# Altium integrated library Linear Technology Power Management Hot Swap Controllers.IntLib: 992 symbols (part 21 of 93)
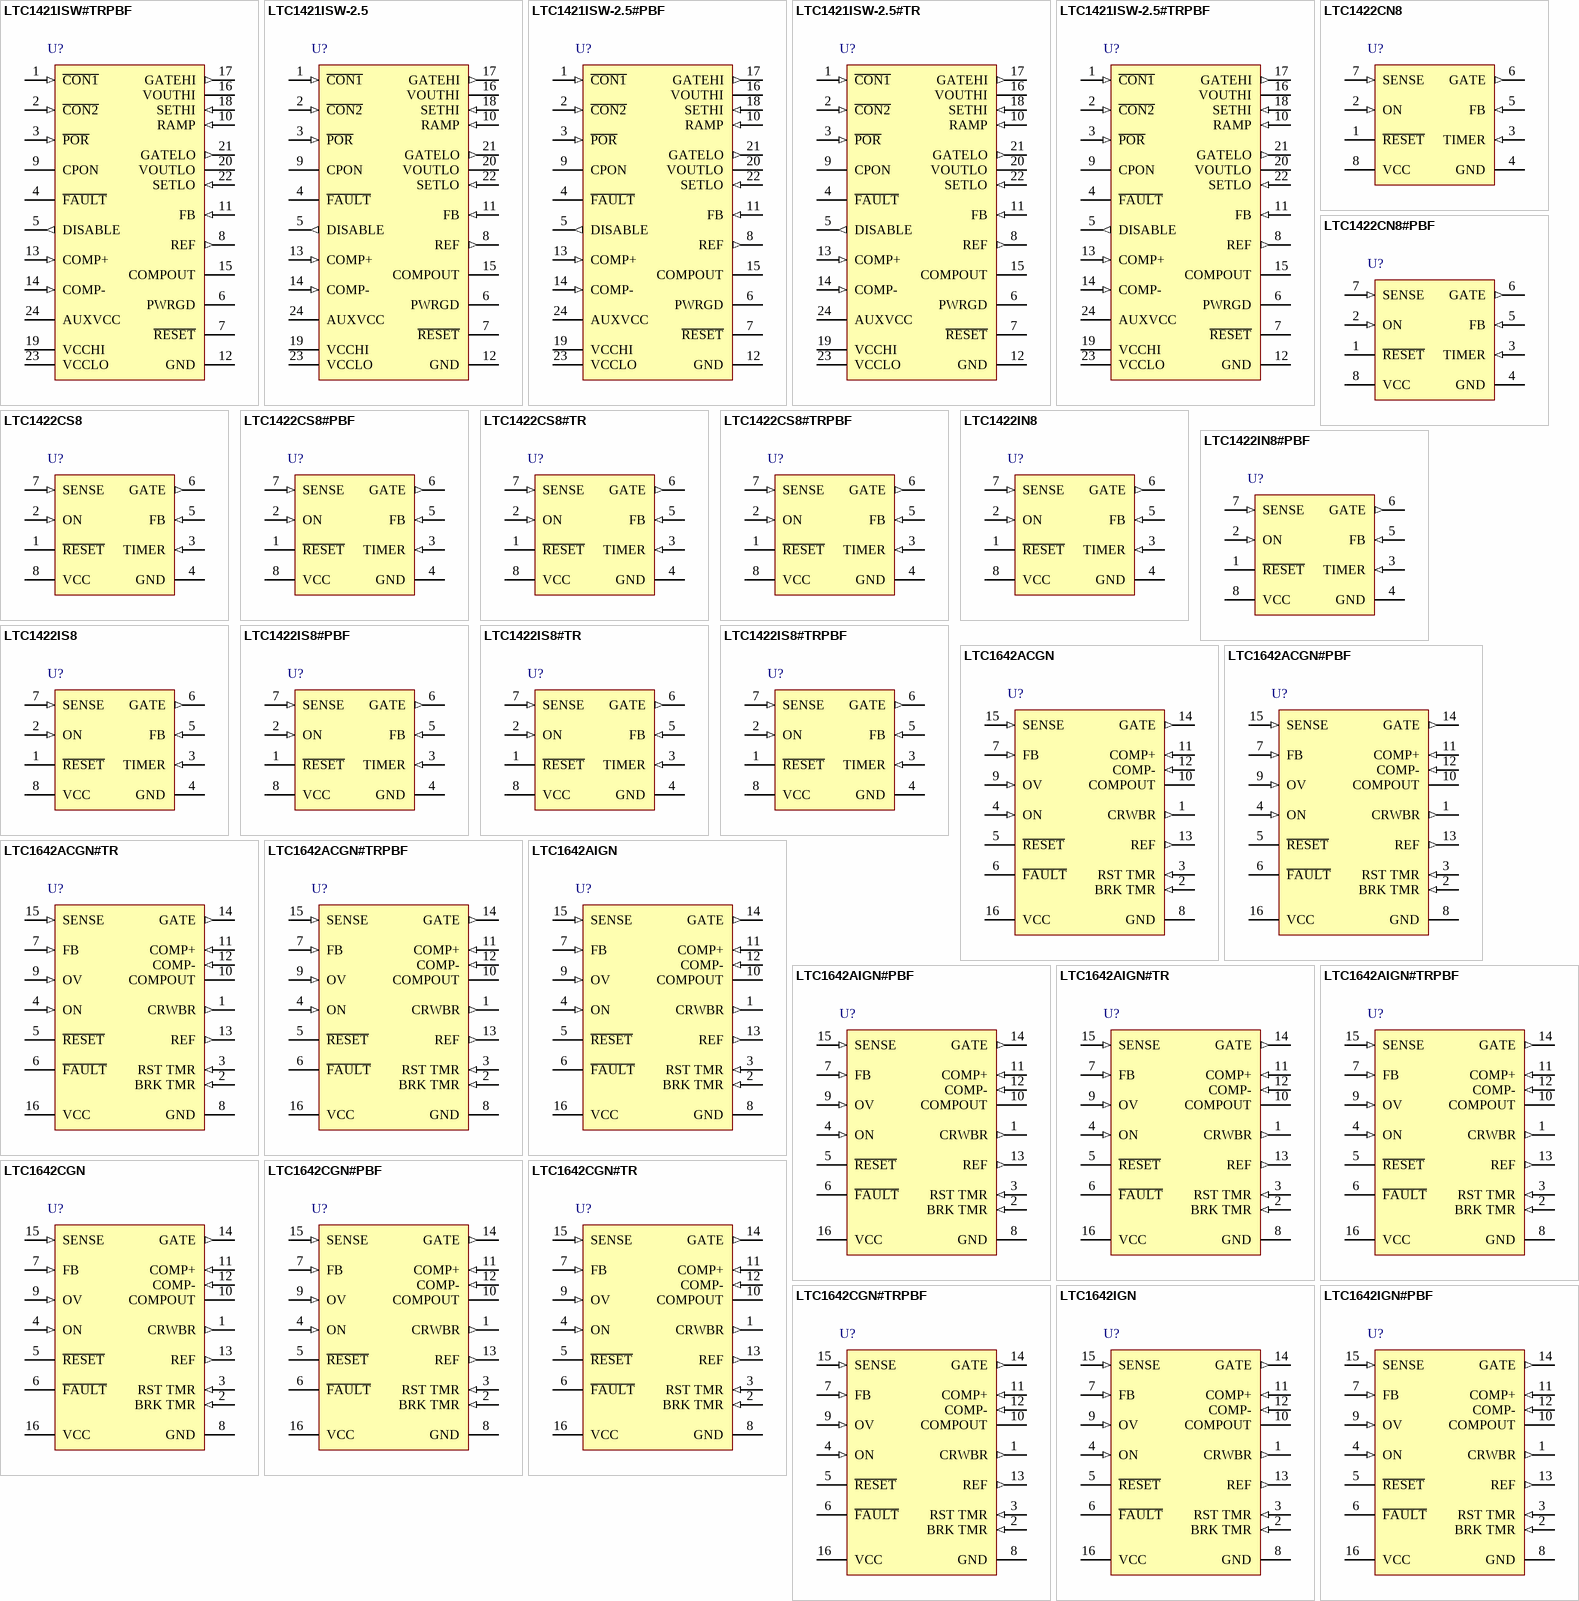
[diagram p57: symbols LTC1421ISW#TRPBF to LTC1642IGN#PBF]

## LTC1642ACGN
designator U?
Hot Swap Controller, 2.97 to 16.5 V Vin, 16-pin SOP (GN-16), 0 to 70 degC; Manufacturer: Linear Technology; PartNumber: LTC1642ACGN; Active Limiting: yes; Circuit Breaker Accuracy(%): 20; Circuit Breaker Threshold: 52.5 mV; Circuit Breakers(#): 1; Extended Temp: C, I; Fast Comparator: no; In-Rush Current: Ramp; PackageVersion: Rev. B, 03/2012; PackageReference: GN-16; PackageDescription: 16-Pin Plastic SSOP, Body 4.9 x 3.9 mm, Pitch 0.635 mm; Fault: yes; Foldback: yes; Power Good: no; Reset: yes; RoHS: FALSE; Vin Range: 2.97 to 16.5 V; Mounting Technology: Surface Mount; ComponentLink1Description: Manufacturer URL; ComponentLink1URL: http://www.linear.com/; ComponentLink2Description: Datasheet; ComponentLink2URL: http://cds.linear.com/docs/en/datasheet/1642af.pdf; ComponentLink3Description: Package Specification; ComponentLink3URL: http://cds.linear.com/docs/en/packaging/05081641_B_GN16.pdf
footprint LT-GN-16_N (SOP, 16-Leads, Body 5x4mm, Pitch 0.635mm, IPC Medium Density)
footprint LT-GN-16_L (SOP, 16-Leads, Body 5x4mm, Pitch 0.635mm, IPC High Density)
footprint LT-GN-16_M (SOP, 16-Leads, Body 5x4mm, Pitch 0.635mm, IPC Low Density)
pins: 1 CRWBR (out) "Overvoltage Crowbar Circuit Timer and Trigger. This pin controls an external overvoltage crowbar circuit. A capacitor from the pin to ground sets a 9ms/uF delay after an overvoltage occurs until an external SCR is triggered. (See Datasheet)", 2 BRK TMR (in) "Circuit Breaker Timer. Connect a capacitor from BRK TMR to ground to set a 60ms/uF delay from the time the sense resistor current reaches its limit until the FET is shut off. F\A\U\L\T\ output is then asserted and the FET (See Datasheet)", 3 RST TMR (in) "Analog System/Reset Timer. A capacitor from this pin to ground sets a 0.6s/uF delay from the ON pin going high to the start of the GATE pin’s ramp. It also sets the delay from output voltage good, as sensed by the FB pin(See Datasheet)", 4 ON (in) "ON Control Input. When ON is low the GATE pin is grounded and F\A\U\L\T\ goes high. The GATE pin voltage starts ramping up one RST TMR timing cycle after ON goes high. Pulsing the ON pin low for at least 2us resets the chip (See Datasheet)", 5 ~{RESET} (oc) "Open Drain Reset Output. R\E\S\E\T\ is pulled low if the voltage at the FB pin is below its trip point. R\E\S\E\T\ goes high one RESET timing cycle after the FB voltage exceeds its trip point plus 3mV of hysteresis. (See Datasheet)", 6 ~{FAULT} (oc) "Open Drain Fault Output. F\A\U\L\T\ is pulled low when the part turns off following a sustained overvoltage or current limit. It goes high 2us after the ON pin goes low. F\A\U\L\T\ has a weak pull-up to one diode drop below (See Datasheet)", 7 FB (in) "Output Voltage Monitor and Foldback Input. The FB comparator can be used with an external resistive divider to monitor the output supply voltage. When the FB voltage is lower than 1.22V the R\E\S\E\T\ pin is pulled low. (See Datasheet)", 8 GND (power) "Chip Ground.", 9 OV (in) "Overvoltage Input. When the voltage on OV exceeds its trip point the GATE pin is pulled low immediately and the CRWBR timer starts. If OV remains above its trip point (minus 3mV of hysteresis) long enough for CRWBR to reach (See Datasheet)", 10 COMPOUT (oc) "Uncommitted Comparator’s Open Drain Output.", 11 COMP+ (in) "Uncommitted Comparator’s Noninverting Input.", 12 COMP- (in) "Uncommitted Comparator’s Inverting Input.", 13 REF (out) "Reference Voltage Output. The 1.22V +/-1% reference should be bypassed with a 0.1uF compensation capacitor. For VCC = 5V it can source 1mA.", 14 GATE (out) "Gate Drive for the External N-Channel MOSFET. An internal charge pump provides at least 4.5V of gate drive and sources 25uA. The pin requires an external series RC network to ground to compensate the current limit loop and (See Datasheet)", 15 SENSE (in) "Current Sense Input. To use the current limit place a sense resistor in the supply path between VCC and SENSE. When the drop across the resistor exceeds a threshold voltage, the GATE pin is adjusted to maintain a constant (See Datasheet)", 16 VCC (power) "Positive Supply Voltage. An internal undervoltage lockout circuit holds the GATE pin at ground until VCC exceeds 2.73V. If VCC exceeds 16.5V an internal shunt regulator protects the chip from VCC and SENSE pin voltages up to (See Datasheet)"

## LTC1642ACGN#PBF
designator U?
Hot Swap Controller, 2.97 to 16.5 V Vin, 16-pin SOP (GN-16), 0 to 70 degC, Pb-Free; Manufacturer: Linear Technology; PartNumber: LTC1642ACGN#PBF; Active Limiting: yes; Circuit Breaker Accuracy(%): 20; Circuit Breaker Threshold: 52.5 mV; Circuit Breakers(#): 1; Extended Temp: C, I; Fast Comparator: no; In-Rush Current: Ramp; PackageVersion: Rev. B, 03/2012; PackageReference: GN-16; PackageDescription: 16-Pin Plastic SSOP, Body 4.9 x 3.9 mm, Pitch 0.635 mm; Supplier 1: Digi-Key; Supplier Part Number 1: LTC1642ACGN#PBF-ND; Fault: yes; Foldback: yes; Power Good: no; Reset: yes; RoHS: TRUE; Vin Range: 2.97 to 16.5 V; Mounting Technology: Surface Mount; ComponentLink1Description: Manufacturer URL; ComponentLink1URL: http://www.linear.com/; ComponentLink2Description: Datasheet; ComponentLink2URL: http://cds.linear.com/docs/en/datasheet/1642af.pdf; ComponentLink3Description: Package Specification; ComponentLink3URL: http://cds.linear.com/docs/en/packaging/05081641_B_GN16.pdf
footprint LT-GN-16_N (SOP, 16-Leads, Body 5x4mm, Pitch 0.635mm, IPC Medium Density)
footprint LT-GN-16_L (SOP, 16-Leads, Body 5x4mm, Pitch 0.635mm, IPC High Density)
footprint LT-GN-16_M (SOP, 16-Leads, Body 5x4mm, Pitch 0.635mm, IPC Low Density)
pins: 1 CRWBR (out) "Overvoltage Crowbar Circuit Timer and Trigger. This pin controls an external overvoltage crowbar circuit. A capacitor from the pin to ground sets a 9ms/uF delay after an overvoltage occurs until an external SCR is triggered. (See Datasheet)", 2 BRK TMR (in) "Circuit Breaker Timer. Connect a capacitor from BRK TMR to ground to set a 60ms/uF delay from the time the sense resistor current reaches its limit until the FET is shut off. F\A\U\L\T\ output is then asserted and the FET (See Datasheet)", 3 RST TMR (in) "Analog System/Reset Timer. A capacitor from this pin to ground sets a 0.6s/uF delay from the ON pin going high to the start of the GATE pin’s ramp. It also sets the delay from output voltage good, as sensed by the FB pin(See Datasheet)", 4 ON (in) "ON Control Input. When ON is low the GATE pin is grounded and F\A\U\L\T\ goes high. The GATE pin voltage starts ramping up one RST TMR timing cycle after ON goes high. Pulsing the ON pin low for at least 2us resets the chip (See Datasheet)", 5 ~{RESET} (oc) "Open Drain Reset Output. R\E\S\E\T\ is pulled low if the voltage at the FB pin is below its trip point. R\E\S\E\T\ goes high one RESET timing cycle after the FB voltage exceeds its trip point plus 3mV of hysteresis. (See Datasheet)", 6 ~{FAULT} (oc) "Open Drain Fault Output. F\A\U\L\T\ is pulled low when the part turns off following a sustained overvoltage or current limit. It goes high 2us after the ON pin goes low. F\A\U\L\T\ has a weak pull-up to one diode drop below (See Datasheet)", 7 FB (in) "Output Voltage Monitor and Foldback Input. The FB comparator can be used with an external resistive divider to monitor the output supply voltage. When the FB voltage is lower than 1.22V the R\E\S\E\T\ pin is pulled low. (See Datasheet)", 8 GND (power) "Chip Ground.", 9 OV (in) "Overvoltage Input. When the voltage on OV exceeds its trip point the GATE pin is pulled low immediately and the CRWBR timer starts. If OV remains above its trip point (minus 3mV of hysteresis) long enough for CRWBR to reach (See Datasheet)", 10 COMPOUT (oc) "Uncommitted Comparator’s Open Drain Output.", 11 COMP+ (in) "Uncommitted Comparator’s Noninverting Input.", 12 COMP- (in) "Uncommitted Comparator’s Inverting Input.", 13 REF (out) "Reference Voltage Output. The 1.22V +/-1% reference should be bypassed with a 0.1uF compensation capacitor. For VCC = 5V it can source 1mA.", 14 GATE (out) "Gate Drive for the External N-Channel MOSFET. An internal charge pump provides at least 4.5V of gate drive and sources 25uA. The pin requires an external series RC network to ground to compensate the current limit loop and (See Datasheet)", 15 SENSE (in) "Current Sense Input. To use the current limit place a sense resistor in the supply path between VCC and SENSE. When the drop across the resistor exceeds a threshold voltage, the GATE pin is adjusted to maintain a constant (See Datasheet)", 16 VCC (power) "Positive Supply Voltage. An internal undervoltage lockout circuit holds the GATE pin at ground until VCC exceeds 2.73V. If VCC exceeds 16.5V an internal shunt regulator protects the chip from VCC and SENSE pin voltages up to (See Datasheet)"

## LTC1642ACGN#TR
designator U?
Hot Swap Controller, 2.97 to 16.5 V Vin, 16-pin SOP (GN-16), 0 to 70 degC, Tape and Reel; Manufacturer: Linear Technology; PartNumber: LTC1642ACGN#TR; Active Limiting: yes; Circuit Breaker Accuracy(%): 20; Circuit Breaker Threshold: 52.5 mV; Circuit Breakers(#): 1; Extended Temp: C, I; Fast Comparator: no; In-Rush Current: Ramp; PackageVersion: Rev. B, 03/2012; PackageReference: GN-16; PackageDescription: 16-Pin Plastic SSOP, Body 4.9 x 3.9 mm, Pitch 0.635 mm; Fault: yes; Foldback: yes; Packing: Tape and Reel; Power Good: no; Reset: yes; RoHS: FALSE; Vin Range: 2.97 to 16.5 V; Mounting Technology: Surface Mount; ComponentLink1Description: Manufacturer URL; ComponentLink1URL: http://www.linear.com/; ComponentLink2Description: Datasheet; ComponentLink2URL: http://cds.linear.com/docs/en/datasheet/1642af.pdf; ComponentLink3Description: Package Specification; ComponentLink3URL: http://cds.linear.com/docs/en/packaging/05081641_B_GN16.pdf
footprint LT-GN-16_N (SOP, 16-Leads, Body 5x4mm, Pitch 0.635mm, IPC Medium Density)
footprint LT-GN-16_L (SOP, 16-Leads, Body 5x4mm, Pitch 0.635mm, IPC High Density)
footprint LT-GN-16_M (SOP, 16-Leads, Body 5x4mm, Pitch 0.635mm, IPC Low Density)
pins: 1 CRWBR (out) "Overvoltage Crowbar Circuit Timer and Trigger. This pin controls an external overvoltage crowbar circuit. A capacitor from the pin to ground sets a 9ms/uF delay after an overvoltage occurs until an external SCR is triggered. (See Datasheet)", 2 BRK TMR (in) "Circuit Breaker Timer. Connect a capacitor from BRK TMR to ground to set a 60ms/uF delay from the time the sense resistor current reaches its limit until the FET is shut off. F\A\U\L\T\ output is then asserted and the FET (See Datasheet)", 3 RST TMR (in) "Analog System/Reset Timer. A capacitor from this pin to ground sets a 0.6s/uF delay from the ON pin going high to the start of the GATE pin’s ramp. It also sets the delay from output voltage good, as sensed by the FB pin(See Datasheet)", 4 ON (in) "ON Control Input. When ON is low the GATE pin is grounded and F\A\U\L\T\ goes high. The GATE pin voltage starts ramping up one RST TMR timing cycle after ON goes high. Pulsing the ON pin low for at least 2us resets the chip (See Datasheet)", 5 ~{RESET} (oc) "Open Drain Reset Output. R\E\S\E\T\ is pulled low if the voltage at the FB pin is below its trip point. R\E\S\E\T\ goes high one RESET timing cycle after the FB voltage exceeds its trip point plus 3mV of hysteresis. (See Datasheet)", 6 ~{FAULT} (oc) "Open Drain Fault Output. F\A\U\L\T\ is pulled low when the part turns off following a sustained overvoltage or current limit. It goes high 2us after the ON pin goes low. F\A\U\L\T\ has a weak pull-up to one diode drop below (See Datasheet)", 7 FB (in) "Output Voltage Monitor and Foldback Input. The FB comparator can be used with an external resistive divider to monitor the output supply voltage. When the FB voltage is lower than 1.22V the R\E\S\E\T\ pin is pulled low. (See Datasheet)", 8 GND (power) "Chip Ground.", 9 OV (in) "Overvoltage Input. When the voltage on OV exceeds its trip point the GATE pin is pulled low immediately and the CRWBR timer starts. If OV remains above its trip point (minus 3mV of hysteresis) long enough for CRWBR to reach (See Datasheet)", 10 COMPOUT (oc) "Uncommitted Comparator’s Open Drain Output.", 11 COMP+ (in) "Uncommitted Comparator’s Noninverting Input.", 12 COMP- (in) "Uncommitted Comparator’s Inverting Input.", 13 REF (out) "Reference Voltage Output. The 1.22V +/-1% reference should be bypassed with a 0.1uF compensation capacitor. For VCC = 5V it can source 1mA.", 14 GATE (out) "Gate Drive for the External N-Channel MOSFET. An internal charge pump provides at least 4.5V of gate drive and sources 25uA. The pin requires an external series RC network to ground to compensate the current limit loop and (See Datasheet)", 15 SENSE (in) "Current Sense Input. To use the current limit place a sense resistor in the supply path between VCC and SENSE. When the drop across the resistor exceeds a threshold voltage, the GATE pin is adjusted to maintain a constant (See Datasheet)", 16 VCC (power) "Positive Supply Voltage. An internal undervoltage lockout circuit holds the GATE pin at ground until VCC exceeds 2.73V. If VCC exceeds 16.5V an internal shunt regulator protects the chip from VCC and SENSE pin voltages up to (See Datasheet)"

## LTC1642ACGN#TRPBF
designator U?
Hot Swap Controller, 2.97 to 16.5 V Vin, 16-pin SOP (GN-16), 0 to 70 degC, Pb-Free, Tape and Reel; Manufacturer: Linear Technology; PartNumber: LTC1642ACGN#TRPBF; Active Limiting: yes; Circuit Breaker Accuracy(%): 20; Circuit Breaker Threshold: 52.5 mV; Circuit Breakers(#): 1; Extended Temp: C, I; Fast Comparator: no; In-Rush Current: Ramp; PackageVersion: Rev. B, 03/2012; PackageReference: GN-16; PackageDescription: 16-Pin Plastic SSOP, Body 4.9 x 3.9 mm, Pitch 0.635 mm; Supplier 1: Digi-Key; Supplier Part Number 1: LTC1642ACGN#TRPBF-ND; Fault: yes; Foldback: yes; Packing: Tape and Reel; Power Good: no; Reset: yes; RoHS: TRUE; Vin Range: 2.97 to 16.5 V; Mounting Technology: Surface Mount; ComponentLink1Description: Manufacturer URL; ComponentLink1URL: http://www.linear.com/; ComponentLink2Description: Datasheet; ComponentLink2URL: http://cds.linear.com/docs/en/datasheet/1642af.pdf; ComponentLink3Description: Package Specification; ComponentLink3URL: http://cds.linear.com/docs/en/packaging/05081641_B_GN16.pdf
footprint LT-GN-16_N (SOP, 16-Leads, Body 5x4mm, Pitch 0.635mm, IPC Medium Density)
footprint LT-GN-16_L (SOP, 16-Leads, Body 5x4mm, Pitch 0.635mm, IPC High Density)
footprint LT-GN-16_M (SOP, 16-Leads, Body 5x4mm, Pitch 0.635mm, IPC Low Density)
pins: 1 CRWBR (out) "Overvoltage Crowbar Circuit Timer and Trigger. This pin controls an external overvoltage crowbar circuit. A capacitor from the pin to ground sets a 9ms/uF delay after an overvoltage occurs until an external SCR is triggered. (See Datasheet)", 2 BRK TMR (in) "Circuit Breaker Timer. Connect a capacitor from BRK TMR to ground to set a 60ms/uF delay from the time the sense resistor current reaches its limit until the FET is shut off. F\A\U\L\T\ output is then asserted and the FET (See Datasheet)", 3 RST TMR (in) "Analog System/Reset Timer. A capacitor from this pin to ground sets a 0.6s/uF delay from the ON pin going high to the start of the GATE pin’s ramp. It also sets the delay from output voltage good, as sensed by the FB pin(See Datasheet)", 4 ON (in) "ON Control Input. When ON is low the GATE pin is grounded and F\A\U\L\T\ goes high. The GATE pin voltage starts ramping up one RST TMR timing cycle after ON goes high. Pulsing the ON pin low for at least 2us resets the chip (See Datasheet)", 5 ~{RESET} (oc) "Open Drain Reset Output. R\E\S\E\T\ is pulled low if the voltage at the FB pin is below its trip point. R\E\S\E\T\ goes high one RESET timing cycle after the FB voltage exceeds its trip point plus 3mV of hysteresis. (See Datasheet)", 6 ~{FAULT} (oc) "Open Drain Fault Output. F\A\U\L\T\ is pulled low when the part turns off following a sustained overvoltage or current limit. It goes high 2us after the ON pin goes low. F\A\U\L\T\ has a weak pull-up to one diode drop below (See Datasheet)", 7 FB (in) "Output Voltage Monitor and Foldback Input. The FB comparator can be used with an external resistive divider to monitor the output supply voltage. When the FB voltage is lower than 1.22V the R\E\S\E\T\ pin is pulled low. (See Datasheet)", 8 GND (power) "Chip Ground.", 9 OV (in) "Overvoltage Input. When the voltage on OV exceeds its trip point the GATE pin is pulled low immediately and the CRWBR timer starts. If OV remains above its trip point (minus 3mV of hysteresis) long enough for CRWBR to reach (See Datasheet)", 10 COMPOUT (oc) "Uncommitted Comparator’s Open Drain Output.", 11 COMP+ (in) "Uncommitted Comparator’s Noninverting Input.", 12 COMP- (in) "Uncommitted Comparator’s Inverting Input.", 13 REF (out) "Reference Voltage Output. The 1.22V +/-1% reference should be bypassed with a 0.1uF compensation capacitor. For VCC = 5V it can source 1mA.", 14 GATE (out) "Gate Drive for the External N-Channel MOSFET. An internal charge pump provides at least 4.5V of gate drive and sources 25uA. The pin requires an external series RC network to ground to compensate the current limit loop and (See Datasheet)", 15 SENSE (in) "Current Sense Input. To use the current limit place a sense resistor in the supply path between VCC and SENSE. When the drop across the resistor exceeds a threshold voltage, the GATE pin is adjusted to maintain a constant (See Datasheet)", 16 VCC (power) "Positive Supply Voltage. An internal undervoltage lockout circuit holds the GATE pin at ground until VCC exceeds 2.73V. If VCC exceeds 16.5V an internal shunt regulator protects the chip from VCC and SENSE pin voltages up to (See Datasheet)"

## LTC1642AIGN
designator U?
Hot Swap Controller, 2.97 to 16.5 V Vin, 16-pin SOP (GN-16), -40 to 85 degC; Manufacturer: Linear Technology; PartNumber: LTC1642AIGN; Active Limiting: yes; Circuit Breaker Accuracy(%): 20; Circuit Breaker Threshold: 52.5 mV; Circuit Breakers(#): 1; Extended Temp: C, I; Fast Comparator: no; In-Rush Current: Ramp; PackageVersion: Rev. B, 03/2012; PackageReference: GN-16; PackageDescription: 16-Pin Plastic SSOP, Body 4.9 x 3.9 mm, Pitch 0.635 mm; Fault: yes; Foldback: yes; Power Good: no; Reset: yes; RoHS: FALSE; Vin Range: 2.97 to 16.5 V; Mounting Technology: Surface Mount; ComponentLink1Description: Manufacturer URL; ComponentLink1URL: http://www.linear.com/; ComponentLink2Description: Datasheet; ComponentLink2URL: http://cds.linear.com/docs/en/datasheet/1642af.pdf; ComponentLink3Description: Package Specification; ComponentLink3URL: http://cds.linear.com/docs/en/packaging/05081641_B_GN16.pdf
footprint LT-GN-16_N (SOP, 16-Leads, Body 5x4mm, Pitch 0.635mm, IPC Medium Density)
footprint LT-GN-16_L (SOP, 16-Leads, Body 5x4mm, Pitch 0.635mm, IPC High Density)
footprint LT-GN-16_M (SOP, 16-Leads, Body 5x4mm, Pitch 0.635mm, IPC Low Density)
pins: 1 CRWBR (out) "Overvoltage Crowbar Circuit Timer and Trigger. This pin controls an external overvoltage crowbar circuit. A capacitor from the pin to ground sets a 9ms/uF delay after an overvoltage occurs until an external SCR is triggered. (See Datasheet)", 2 BRK TMR (in) "Circuit Breaker Timer. Connect a capacitor from BRK TMR to ground to set a 60ms/uF delay from the time the sense resistor current reaches its limit until the FET is shut off. F\A\U\L\T\ output is then asserted and the FET (See Datasheet)", 3 RST TMR (in) "Analog System/Reset Timer. A capacitor from this pin to ground sets a 0.6s/uF delay from the ON pin going high to the start of the GATE pin’s ramp. It also sets the delay from output voltage good, as sensed by the FB pin(See Datasheet)", 4 ON (in) "ON Control Input. When ON is low the GATE pin is grounded and F\A\U\L\T\ goes high. The GATE pin voltage starts ramping up one RST TMR timing cycle after ON goes high. Pulsing the ON pin low for at least 2us resets the chip (See Datasheet)", 5 ~{RESET} (oc) "Open Drain Reset Output. R\E\S\E\T\ is pulled low if the voltage at the FB pin is below its trip point. R\E\S\E\T\ goes high one RESET timing cycle after the FB voltage exceeds its trip point plus 3mV of hysteresis. (See Datasheet)", 6 ~{FAULT} (oc) "Open Drain Fault Output. F\A\U\L\T\ is pulled low when the part turns off following a sustained overvoltage or current limit. It goes high 2us after the ON pin goes low. F\A\U\L\T\ has a weak pull-up to one diode drop below (See Datasheet)", 7 FB (in) "Output Voltage Monitor and Foldback Input. The FB comparator can be used with an external resistive divider to monitor the output supply voltage. When the FB voltage is lower than 1.22V the R\E\S\E\T\ pin is pulled low. (See Datasheet)", 8 GND (power) "Chip Ground.", 9 OV (in) "Overvoltage Input. When the voltage on OV exceeds its trip point the GATE pin is pulled low immediately and the CRWBR timer starts. If OV remains above its trip point (minus 3mV of hysteresis) long enough for CRWBR to reach (See Datasheet)", 10 COMPOUT (oc) "Uncommitted Comparator’s Open Drain Output.", 11 COMP+ (in) "Uncommitted Comparator’s Noninverting Input.", 12 COMP- (in) "Uncommitted Comparator’s Inverting Input.", 13 REF (out) "Reference Voltage Output. The 1.22V +/-1% reference should be bypassed with a 0.1uF compensation capacitor. For VCC = 5V it can source 1mA.", 14 GATE (out) "Gate Drive for the External N-Channel MOSFET. An internal charge pump provides at least 4.5V of gate drive and sources 25uA. The pin requires an external series RC network to ground to compensate the current limit loop and (See Datasheet)", 15 SENSE (in) "Current Sense Input. To use the current limit place a sense resistor in the supply path between VCC and SENSE. When the drop across the resistor exceeds a threshold voltage, the GATE pin is adjusted to maintain a constant (See Datasheet)", 16 VCC (power) "Positive Supply Voltage. An internal undervoltage lockout circuit holds the GATE pin at ground until VCC exceeds 2.73V. If VCC exceeds 16.5V an internal shunt regulator protects the chip from VCC and SENSE pin voltages up to (See Datasheet)"

## LTC1642AIGN#PBF
designator U?
Hot Swap Controller, 2.97 to 16.5 V Vin, 16-pin SOP (GN-16), -40 to 85 degC, Pb-Free; Manufacturer: Linear Technology; PartNumber: LTC1642AIGN#PBF; Active Limiting: yes; Circuit Breaker Accuracy(%): 20; Circuit Breaker Threshold: 52.5 mV; Circuit Breakers(#): 1; Extended Temp: C, I; Fast Comparator: no; In-Rush Current: Ramp; PackageVersion: Rev. B, 03/2012; PackageReference: GN-16; PackageDescription: 16-Pin Plastic SSOP, Body 4.9 x 3.9 mm, Pitch 0.635 mm; Supplier 1: Digi-Key; Supplier Part Number 1: LTC1642AIGN#PBF-ND; Fault: yes; Foldback: yes; Power Good: no; Reset: yes; RoHS: TRUE; Vin Range: 2.97 to 16.5 V; Mounting Technology: Surface Mount; ComponentLink1Description: Manufacturer URL; ComponentLink1URL: http://www.linear.com/; ComponentLink2Description: Datasheet; ComponentLink2URL: http://cds.linear.com/docs/en/datasheet/1642af.pdf; ComponentLink3Description: Package Specification; ComponentLink3URL: http://cds.linear.com/docs/en/packaging/05081641_B_GN16.pdf
footprint LT-GN-16_N (SOP, 16-Leads, Body 5x4mm, Pitch 0.635mm, IPC Medium Density)
footprint LT-GN-16_L (SOP, 16-Leads, Body 5x4mm, Pitch 0.635mm, IPC High Density)
footprint LT-GN-16_M (SOP, 16-Leads, Body 5x4mm, Pitch 0.635mm, IPC Low Density)
pins: 1 CRWBR (out) "Overvoltage Crowbar Circuit Timer and Trigger. This pin controls an external overvoltage crowbar circuit. A capacitor from the pin to ground sets a 9ms/uF delay after an overvoltage occurs until an external SCR is triggered. (See Datasheet)", 2 BRK TMR (in) "Circuit Breaker Timer. Connect a capacitor from BRK TMR to ground to set a 60ms/uF delay from the time the sense resistor current reaches its limit until the FET is shut off. F\A\U\L\T\ output is then asserted and the FET (See Datasheet)", 3 RST TMR (in) "Analog System/Reset Timer. A capacitor from this pin to ground sets a 0.6s/uF delay from the ON pin going high to the start of the GATE pin’s ramp. It also sets the delay from output voltage good, as sensed by the FB pin(See Datasheet)", 4 ON (in) "ON Control Input. When ON is low the GATE pin is grounded and F\A\U\L\T\ goes high. The GATE pin voltage starts ramping up one RST TMR timing cycle after ON goes high. Pulsing the ON pin low for at least 2us resets the chip (See Datasheet)", 5 ~{RESET} (oc) "Open Drain Reset Output. R\E\S\E\T\ is pulled low if the voltage at the FB pin is below its trip point. R\E\S\E\T\ goes high one RESET timing cycle after the FB voltage exceeds its trip point plus 3mV of hysteresis. (See Datasheet)", 6 ~{FAULT} (oc) "Open Drain Fault Output. F\A\U\L\T\ is pulled low when the part turns off following a sustained overvoltage or current limit. It goes high 2us after the ON pin goes low. F\A\U\L\T\ has a weak pull-up to one diode drop below (See Datasheet)", 7 FB (in) "Output Voltage Monitor and Foldback Input. The FB comparator can be used with an external resistive divider to monitor the output supply voltage. When the FB voltage is lower than 1.22V the R\E\S\E\T\ pin is pulled low. (See Datasheet)", 8 GND (power) "Chip Ground.", 9 OV (in) "Overvoltage Input. When the voltage on OV exceeds its trip point the GATE pin is pulled low immediately and the CRWBR timer starts. If OV remains above its trip point (minus 3mV of hysteresis) long enough for CRWBR to reach (See Datasheet)", 10 COMPOUT (oc) "Uncommitted Comparator’s Open Drain Output.", 11 COMP+ (in) "Uncommitted Comparator’s Noninverting Input.", 12 COMP- (in) "Uncommitted Comparator’s Inverting Input.", 13 REF (out) "Reference Voltage Output. The 1.22V +/-1% reference should be bypassed with a 0.1uF compensation capacitor. For VCC = 5V it can source 1mA.", 14 GATE (out) "Gate Drive for the External N-Channel MOSFET. An internal charge pump provides at least 4.5V of gate drive and sources 25uA. The pin requires an external series RC network to ground to compensate the current limit loop and (See Datasheet)", 15 SENSE (in) "Current Sense Input. To use the current limit place a sense resistor in the supply path between VCC and SENSE. When the drop across the resistor exceeds a threshold voltage, the GATE pin is adjusted to maintain a constant (See Datasheet)", 16 VCC (power) "Positive Supply Voltage. An internal undervoltage lockout circuit holds the GATE pin at ground until VCC exceeds 2.73V. If VCC exceeds 16.5V an internal shunt regulator protects the chip from VCC and SENSE pin voltages up to (See Datasheet)"

## LTC1642AIGN#TR
designator U?
Hot Swap Controller, 2.97 to 16.5 V Vin, 16-pin SOP (GN-16), -40 to 85 degC, Tape and Reel; Manufacturer: Linear Technology; PartNumber: LTC1642AIGN#TR; Active Limiting: yes; Circuit Breaker Accuracy(%): 20; Circuit Breaker Threshold: 52.5 mV; Circuit Breakers(#): 1; Extended Temp: C, I; Fast Comparator: no; In-Rush Current: Ramp; PackageVersion: Rev. B, 03/2012; PackageReference: GN-16; PackageDescription: 16-Pin Plastic SSOP, Body 4.9 x 3.9 mm, Pitch 0.635 mm; Fault: yes; Foldback: yes; Packing: Tape and Reel; Power Good: no; Reset: yes; RoHS: FALSE; Vin Range: 2.97 to 16.5 V; Mounting Technology: Surface Mount; ComponentLink1Description: Manufacturer URL; ComponentLink1URL: http://www.linear.com/; ComponentLink2Description: Datasheet; ComponentLink2URL: http://cds.linear.com/docs/en/datasheet/1642af.pdf; ComponentLink3Description: Package Specification; ComponentLink3URL: http://cds.linear.com/docs/en/packaging/05081641_B_GN16.pdf
footprint LT-GN-16_N (SOP, 16-Leads, Body 5x4mm, Pitch 0.635mm, IPC Medium Density)
footprint LT-GN-16_L (SOP, 16-Leads, Body 5x4mm, Pitch 0.635mm, IPC High Density)
footprint LT-GN-16_M (SOP, 16-Leads, Body 5x4mm, Pitch 0.635mm, IPC Low Density)
pins: 1 CRWBR (out) "Overvoltage Crowbar Circuit Timer and Trigger. This pin controls an external overvoltage crowbar circuit. A capacitor from the pin to ground sets a 9ms/uF delay after an overvoltage occurs until an external SCR is triggered. (See Datasheet)", 2 BRK TMR (in) "Circuit Breaker Timer. Connect a capacitor from BRK TMR to ground to set a 60ms/uF delay from the time the sense resistor current reaches its limit until the FET is shut off. F\A\U\L\T\ output is then asserted and the FET (See Datasheet)", 3 RST TMR (in) "Analog System/Reset Timer. A capacitor from this pin to ground sets a 0.6s/uF delay from the ON pin going high to the start of the GATE pin’s ramp. It also sets the delay from output voltage good, as sensed by the FB pin(See Datasheet)", 4 ON (in) "ON Control Input. When ON is low the GATE pin is grounded and F\A\U\L\T\ goes high. The GATE pin voltage starts ramping up one RST TMR timing cycle after ON goes high. Pulsing the ON pin low for at least 2us resets the chip (See Datasheet)", 5 ~{RESET} (oc) "Open Drain Reset Output. R\E\S\E\T\ is pulled low if the voltage at the FB pin is below its trip point. R\E\S\E\T\ goes high one RESET timing cycle after the FB voltage exceeds its trip point plus 3mV of hysteresis. (See Datasheet)", 6 ~{FAULT} (oc) "Open Drain Fault Output. F\A\U\L\T\ is pulled low when the part turns off following a sustained overvoltage or current limit. It goes high 2us after the ON pin goes low. F\A\U\L\T\ has a weak pull-up to one diode drop below (See Datasheet)", 7 FB (in) "Output Voltage Monitor and Foldback Input. The FB comparator can be used with an external resistive divider to monitor the output supply voltage. When the FB voltage is lower than 1.22V the R\E\S\E\T\ pin is pulled low. (See Datasheet)", 8 GND (power) "Chip Ground.", 9 OV (in) "Overvoltage Input. When the voltage on OV exceeds its trip point the GATE pin is pulled low immediately and the CRWBR timer starts. If OV remains above its trip point (minus 3mV of hysteresis) long enough for CRWBR to reach (See Datasheet)", 10 COMPOUT (oc) "Uncommitted Comparator’s Open Drain Output.", 11 COMP+ (in) "Uncommitted Comparator’s Noninverting Input.", 12 COMP- (in) "Uncommitted Comparator’s Inverting Input.", 13 REF (out) "Reference Voltage Output. The 1.22V +/-1% reference should be bypassed with a 0.1uF compensation capacitor. For VCC = 5V it can source 1mA.", 14 GATE (out) "Gate Drive for the External N-Channel MOSFET. An internal charge pump provides at least 4.5V of gate drive and sources 25uA. The pin requires an external series RC network to ground to compensate the current limit loop and (See Datasheet)", 15 SENSE (in) "Current Sense Input. To use the current limit place a sense resistor in the supply path between VCC and SENSE. When the drop across the resistor exceeds a threshold voltage, the GATE pin is adjusted to maintain a constant (See Datasheet)", 16 VCC (power) "Positive Supply Voltage. An internal undervoltage lockout circuit holds the GATE pin at ground until VCC exceeds 2.73V. If VCC exceeds 16.5V an internal shunt regulator protects the chip from VCC and SENSE pin voltages up to (See Datasheet)"

## LTC1642AIGN#TRPBF
designator U?
Hot Swap Controller, 2.97 to 16.5 V Vin, 16-pin SOP (GN-16), -40 to 85 degC, Pb-Free, Tape and Reel; Manufacturer: Linear Technology; PartNumber: LTC1642AIGN#TRPBF; Active Limiting: yes; Circuit Breaker Accuracy(%): 20; Circuit Breaker Threshold: 52.5 mV; Circuit Breakers(#): 1; Extended Temp: C, I; Fast Comparator: no; In-Rush Current: Ramp; PackageVersion: Rev. B, 03/2012; PackageReference: GN-16; PackageDescription: 16-Pin Plastic SSOP, Body 4.9 x 3.9 mm, Pitch 0.635 mm; Supplier 1: Digi-Key; Supplier Part Number 1: LTC1642AIGN#TRPBF-ND; Fault: yes; Foldback: yes; Packing: Tape and Reel; Power Good: no; Reset: yes; RoHS: TRUE; Vin Range: 2.97 to 16.5 V; Mounting Technology: Surface Mount; ComponentLink1Description: Manufacturer URL; ComponentLink1URL: http://www.linear.com/; ComponentLink2Description: Datasheet; ComponentLink2URL: http://cds.linear.com/docs/en/datasheet/1642af.pdf; ComponentLink3Description: Package Specification; ComponentLink3URL: http://cds.linear.com/docs/en/packaging/05081641_B_GN16.pdf
footprint LT-GN-16_N (SOP, 16-Leads, Body 5x4mm, Pitch 0.635mm, IPC Medium Density)
footprint LT-GN-16_L (SOP, 16-Leads, Body 5x4mm, Pitch 0.635mm, IPC High Density)
footprint LT-GN-16_M (SOP, 16-Leads, Body 5x4mm, Pitch 0.635mm, IPC Low Density)
pins: 1 CRWBR (out) "Overvoltage Crowbar Circuit Timer and Trigger. This pin controls an external overvoltage crowbar circuit. A capacitor from the pin to ground sets a 9ms/uF delay after an overvoltage occurs until an external SCR is triggered. (See Datasheet)", 2 BRK TMR (in) "Circuit Breaker Timer. Connect a capacitor from BRK TMR to ground to set a 60ms/uF delay from the time the sense resistor current reaches its limit until the FET is shut off. F\A\U\L\T\ output is then asserted and the FET (See Datasheet)", 3 RST TMR (in) "Analog System/Reset Timer. A capacitor from this pin to ground sets a 0.6s/uF delay from the ON pin going high to the start of the GATE pin’s ramp. It also sets the delay from output voltage good, as sensed by the FB pin(See Datasheet)", 4 ON (in) "ON Control Input. When ON is low the GATE pin is grounded and F\A\U\L\T\ goes high. The GATE pin voltage starts ramping up one RST TMR timing cycle after ON goes high. Pulsing the ON pin low for at least 2us resets the chip (See Datasheet)", 5 ~{RESET} (oc) "Open Drain Reset Output. R\E\S\E\T\ is pulled low if the voltage at the FB pin is below its trip point. R\E\S\E\T\ goes high one RESET timing cycle after the FB voltage exceeds its trip point plus 3mV of hysteresis. (See Datasheet)", 6 ~{FAULT} (oc) "Open Drain Fault Output. F\A\U\L\T\ is pulled low when the part turns off following a sustained overvoltage or current limit. It goes high 2us after the ON pin goes low. F\A\U\L\T\ has a weak pull-up to one diode drop below (See Datasheet)", 7 FB (in) "Output Voltage Monitor and Foldback Input. The FB comparator can be used with an external resistive divider to monitor the output supply voltage. When the FB voltage is lower than 1.22V the R\E\S\E\T\ pin is pulled low. (See Datasheet)", 8 GND (power) "Chip Ground.", 9 OV (in) "Overvoltage Input. When the voltage on OV exceeds its trip point the GATE pin is pulled low immediately and the CRWBR timer starts. If OV remains above its trip point (minus 3mV of hysteresis) long enough for CRWBR to reach (See Datasheet)", 10 COMPOUT (oc) "Uncommitted Comparator’s Open Drain Output.", 11 COMP+ (in) "Uncommitted Comparator’s Noninverting Input.", 12 COMP- (in) "Uncommitted Comparator’s Inverting Input.", 13 REF (out) "Reference Voltage Output. The 1.22V +/-1% reference should be bypassed with a 0.1uF compensation capacitor. For VCC = 5V it can source 1mA.", 14 GATE (out) "Gate Drive for the External N-Channel MOSFET. An internal charge pump provides at least 4.5V of gate drive and sources 25uA. The pin requires an external series RC network to ground to compensate the current limit loop and (See Datasheet)", 15 SENSE (in) "Current Sense Input. To use the current limit place a sense resistor in the supply path between VCC and SENSE. When the drop across the resistor exceeds a threshold voltage, the GATE pin is adjusted to maintain a constant (See Datasheet)", 16 VCC (power) "Positive Supply Voltage. An internal undervoltage lockout circuit holds the GATE pin at ground until VCC exceeds 2.73V. If VCC exceeds 16.5V an internal shunt regulator protects the chip from VCC and SENSE pin voltages up to (See Datasheet)"

## LTC1642CGN
designator U?
Hot Swap Controller, 2.97 to 16.5 V Vin, 16-pin SOP (GN-16), 0 to 70 degC; Manufacturer: Linear Technology; PartNumber: LTC1642CGN; Active Limiting: yes; Circuit Breaker Accuracy(%): 20; Circuit Breaker Threshold: 52.5 mV; Circuit Breakers(#): 1; Extended Temp: C, I; Fast Comparator: no; In-Rush Current: Ramp; DatasheetVersion: Rev. B; PackageVersion: Rev. B, 03/2012; PackageReference: GN-16; PackageDescription: 16-Pin Plastic SSOP, Body 4.9 x 3.9 mm, Pitch 0.635 mm; Supplier 1: Digi-Key; Supplier Part Number 1: LTC1642CGN-ND; Fault: yes; Foldback: yes; Power Good: no; Reset: yes; RoHS: FALSE; Vin Range: 2.97 to 16.5 V; Mounting Technology: Surface Mount; ComponentLink1Description: Manufacturer URL; ComponentLink1URL: http://www.linear.com/; ComponentLink2Description: Datasheet; ComponentLink2URL: http://cds.linear.com/docs/en/datasheet/1642fb.pdf; ComponentLink3Description: Package Specification; ComponentLink3URL: http://cds.linear.com/docs/en/packaging/05081641_B_GN16.pdf
footprint LT-GN-16_N (SOP, 16-Leads, Body 5x4mm, Pitch 0.635mm, IPC Medium Density)
footprint LT-GN-16_L (SOP, 16-Leads, Body 5x4mm, Pitch 0.635mm, IPC High Density)
footprint LT-GN-16_M (SOP, 16-Leads, Body 5x4mm, Pitch 0.635mm, IPC Low Density)
pins: 1 CRWBR (out) "Overvoltage Crowbar Circuit Timer and Trigger. This pin controls an external overvoltage crowbar circuit. A capacitor from the pin to ground sets a 9ms/uF delay after an overvoltage occurs until an external SCR is triggered. (See Datasheet)", 2 BRK TMR (in) "Circuit Breaker Timer. Connect a capacitor from BRK TMR to ground to set a 60ms/uF delay from the time the sense resistor current reaches its limit until the FET is shut off. F\A\U\L\T\ output is then asserted and the FET (See Datasheet)", 3 RST TMR (in) "Analog System/Reset Timer. A capacitor from this pin to ground sets a 0.6s/uF delay from the ON pin going high to the start of the GATE pin’s ramp. It also sets the delay from output voltage good, as sensed by the FB pin(See Datasheet)", 4 ON (in) "ON Control Input. When ON is low the GATE pin is grounded and F\A\U\L\T\ goes high. The GATE pin voltage starts ramping up one RST TMR timing cycle after ON goes high. Pulsing the ON pin low for at least 2us resets the chip (See Datasheet)", 5 ~{RESET} (oc) "Open Drain Reset Output. R\E\S\E\T\ is pulled low if the voltage at the FB pin is below its trip point. R\E\S\E\T\ goes high one RESET timing cycle after the FB voltage exceeds its trip point plus 3mV of hysteresis. (See Datasheet)", 6 ~{FAULT} (oc) "Open Drain Fault Output. F\A\U\L\T\ is pulled low when the part turns off following a sustained overvoltage or current limit. It goes high 2us after the ON pin goes low. F\A\U\L\T\ has a weak pull-up to one diode drop below (See Datasheet)", 7 FB (in) "Output Voltage Monitor and Foldback Input. The FB comparator can be used with an external resistive divider to monitor the output supply voltage. When the FB voltage is lower than 1.22V the R\E\S\E\T\ pin is pulled low. (See Datasheet)", 8 GND (power) "Chip Ground.", 9 OV (in) "Overvoltage Input. When the voltage on OV exceeds its trip point the GATE pin is pulled low immediately and the CRWBR timer starts. If OV remains above its trip point (minus 3mV of hysteresis) long enough for CRWBR to reach (See Datasheet)", 10 COMPOUT (oc) "Uncommitted Comparator’s Open Drain Output.", 11 COMP+ (in) "Uncommitted Comparator’s Noninverting Input.", 12 COMP- (in) "Uncommitted Comparator’s Inverting Input.", 13 REF (out) "Reference Voltage Output. The 1.22V +/-1% reference should be bypassed with a 0.1uF compensation capacitor. For VCC = 5V it can source 1mA.", 14 GATE (out) "Gate Drive for the External N-Channel MOSFET. An internal charge pump provides at least 4.5V of gate drive and sources 25uA. The pin requires an external series RC network to ground to compensate the current limit loop and (See Datasheet)", 15 SENSE (in) "Current Sense Input. To use the current limit place a sense resistor in the supply path between VCC and SENSE. When the drop across the resistor exceeds a threshold voltage, the GATE pin is adjusted to maintain a constant (See Datasheet)", 16 VCC (power) "Positive Supply Voltage. An internal undervoltage lockout circuit holds the GATE pin at ground until VCC exceeds 2.73V. If VCC exceeds 16.5V an internal shunt regulator protects the chip from VCC and SENSE pin voltages up to (See Datasheet)"

## LTC1642CGN#PBF
designator U?
Hot Swap Controller, 2.97 to 16.5 V Vin, 16-pin SOP (GN-16), 0 to 70 degC, Pb-Free; Manufacturer: Linear Technology; PartNumber: LTC1642CGN#PBF; Active Limiting: yes; Circuit Breaker Accuracy(%): 20; Circuit Breaker Threshold: 52.5 mV; Circuit Breakers(#): 1; Extended Temp: C, I; Fast Comparator: no; In-Rush Current: Ramp; DatasheetVersion: Rev. B; PackageVersion: Rev. B, 03/2012; PackageReference: GN-16; PackageDescription: 16-Pin Plastic SSOP, Body 4.9 x 3.9 mm, Pitch 0.635 mm; Supplier 1: Digi-Key; Supplier Part Number 1: LTC1642CGN#PBF-ND; Supplier 2: Farnell; Supplier Part Number 2: 1273894; Fault: yes; Foldback: yes; Power Good: no; Reset: yes; RoHS: TRUE; Vin Range: 2.97 to 16.5 V; Mounting Technology: Surface Mount; ComponentLink1Description: Manufacturer URL; ComponentLink1URL: http://www.linear.com/; ComponentLink2Description: Datasheet; ComponentLink2URL: http://cds.linear.com/docs/en/datasheet/1642fb.pdf; ComponentLink3Description: Package Specification; ComponentLink3URL: http://cds.linear.com/docs/en/packaging/05081641_B_GN16.pdf
footprint LT-GN-16_N (SOP, 16-Leads, Body 5x4mm, Pitch 0.635mm, IPC Medium Density)
footprint LT-GN-16_L (SOP, 16-Leads, Body 5x4mm, Pitch 0.635mm, IPC High Density)
footprint LT-GN-16_M (SOP, 16-Leads, Body 5x4mm, Pitch 0.635mm, IPC Low Density)
pins: 1 CRWBR (out) "Overvoltage Crowbar Circuit Timer and Trigger. This pin controls an external overvoltage crowbar circuit. A capacitor from the pin to ground sets a 9ms/uF delay after an overvoltage occurs until an external SCR is triggered. (See Datasheet)", 2 BRK TMR (in) "Circuit Breaker Timer. Connect a capacitor from BRK TMR to ground to set a 60ms/uF delay from the time the sense resistor current reaches its limit until the FET is shut off. F\A\U\L\T\ output is then asserted and the FET (See Datasheet)", 3 RST TMR (in) "Analog System/Reset Timer. A capacitor from this pin to ground sets a 0.6s/uF delay from the ON pin going high to the start of the GATE pin’s ramp. It also sets the delay from output voltage good, as sensed by the FB pin(See Datasheet)", 4 ON (in) "ON Control Input. When ON is low the GATE pin is grounded and F\A\U\L\T\ goes high. The GATE pin voltage starts ramping up one RST TMR timing cycle after ON goes high. Pulsing the ON pin low for at least 2us resets the chip (See Datasheet)", 5 ~{RESET} (oc) "Open Drain Reset Output. R\E\S\E\T\ is pulled low if the voltage at the FB pin is below its trip point. R\E\S\E\T\ goes high one RESET timing cycle after the FB voltage exceeds its trip point plus 3mV of hysteresis. (See Datasheet)", 6 ~{FAULT} (oc) "Open Drain Fault Output. F\A\U\L\T\ is pulled low when the part turns off following a sustained overvoltage or current limit. It goes high 2us after the ON pin goes low. F\A\U\L\T\ has a weak pull-up to one diode drop below (See Datasheet)", 7 FB (in) "Output Voltage Monitor and Foldback Input. The FB comparator can be used with an external resistive divider to monitor the output supply voltage. When the FB voltage is lower than 1.22V the R\E\S\E\T\ pin is pulled low. (See Datasheet)", 8 GND (power) "Chip Ground.", 9 OV (in) "Overvoltage Input. When the voltage on OV exceeds its trip point the GATE pin is pulled low immediately and the CRWBR timer starts. If OV remains above its trip point (minus 3mV of hysteresis) long enough for CRWBR to reach (See Datasheet)", 10 COMPOUT (oc) "Uncommitted Comparator’s Open Drain Output.", 11 COMP+ (in) "Uncommitted Comparator’s Noninverting Input.", 12 COMP- (in) "Uncommitted Comparator’s Inverting Input.", 13 REF (out) "Reference Voltage Output. The 1.22V +/-1% reference should be bypassed with a 0.1uF compensation capacitor. For VCC = 5V it can source 1mA.", 14 GATE (out) "Gate Drive for the External N-Channel MOSFET. An internal charge pump provides at least 4.5V of gate drive and sources 25uA. The pin requires an external series RC network to ground to compensate the current limit loop and (See Datasheet)", 15 SENSE (in) "Current Sense Input. To use the current limit place a sense resistor in the supply path between VCC and SENSE. When the drop across the resistor exceeds a threshold voltage, the GATE pin is adjusted to maintain a constant (See Datasheet)", 16 VCC (power) "Positive Supply Voltage. An internal undervoltage lockout circuit holds the GATE pin at ground until VCC exceeds 2.73V. If VCC exceeds 16.5V an internal shunt regulator protects the chip from VCC and SENSE pin voltages up to (See Datasheet)"

## LTC1642CGN#TR
designator U?
Hot Swap Controller, 2.97 to 16.5 V Vin, 16-pin SOP (GN-16), 0 to 70 degC, Tape and Reel; Manufacturer: Linear Technology; PartNumber: LTC1642CGN#TR; Active Limiting: yes; Circuit Breaker Accuracy(%): 20; Circuit Breaker Threshold: 52.5 mV; Circuit Breakers(#): 1; Extended Temp: C, I; Fast Comparator: no; In-Rush Current: Ramp; DatasheetVersion: Rev. B; PackageVersion: Rev. B, 03/2012; PackageReference: GN-16; PackageDescription: 16-Pin Plastic SSOP, Body 4.9 x 3.9 mm, Pitch 0.635 mm; Supplier 1: Digi-Key; Supplier Part Number 1: LTC1642CGN#TR-ND; Fault: yes; Foldback: yes; Packing: Tape and Reel; Power Good: no; Reset: yes; RoHS: FALSE; Vin Range: 2.97 to 16.5 V; Mounting Technology: Surface Mount; ComponentLink1Description: Manufacturer URL; ComponentLink1URL: http://www.linear.com/; ComponentLink2Description: Datasheet; ComponentLink2URL: http://cds.linear.com/docs/en/datasheet/1642fb.pdf; ComponentLink3Description: Package Specification; ComponentLink3URL: http://cds.linear.com/docs/en/packaging/05081641_B_GN16.pdf
footprint LT-GN-16_N (SOP, 16-Leads, Body 5x4mm, Pitch 0.635mm, IPC Medium Density)
footprint LT-GN-16_L (SOP, 16-Leads, Body 5x4mm, Pitch 0.635mm, IPC High Density)
footprint LT-GN-16_M (SOP, 16-Leads, Body 5x4mm, Pitch 0.635mm, IPC Low Density)
pins: 1 CRWBR (out) "Overvoltage Crowbar Circuit Timer and Trigger. This pin controls an external overvoltage crowbar circuit. A capacitor from the pin to ground sets a 9ms/uF delay after an overvoltage occurs until an external SCR is triggered. (See Datasheet)", 2 BRK TMR (in) "Circuit Breaker Timer. Connect a capacitor from BRK TMR to ground to set a 60ms/uF delay from the time the sense resistor current reaches its limit until the FET is shut off. F\A\U\L\T\ output is then asserted and the FET (See Datasheet)", 3 RST TMR (in) "Analog System/Reset Timer. A capacitor from this pin to ground sets a 0.6s/uF delay from the ON pin going high to the start of the GATE pin’s ramp. It also sets the delay from output voltage good, as sensed by the FB pin(See Datasheet)", 4 ON (in) "ON Control Input. When ON is low the GATE pin is grounded and F\A\U\L\T\ goes high. The GATE pin voltage starts ramping up one RST TMR timing cycle after ON goes high. Pulsing the ON pin low for at least 2us resets the chip (See Datasheet)", 5 ~{RESET} (oc) "Open Drain Reset Output. R\E\S\E\T\ is pulled low if the voltage at the FB pin is below its trip point. R\E\S\E\T\ goes high one RESET timing cycle after the FB voltage exceeds its trip point plus 3mV of hysteresis. (See Datasheet)", 6 ~{FAULT} (oc) "Open Drain Fault Output. F\A\U\L\T\ is pulled low when the part turns off following a sustained overvoltage or current limit. It goes high 2us after the ON pin goes low. F\A\U\L\T\ has a weak pull-up to one diode drop below (See Datasheet)", 7 FB (in) "Output Voltage Monitor and Foldback Input. The FB comparator can be used with an external resistive divider to monitor the output supply voltage. When the FB voltage is lower than 1.22V the R\E\S\E\T\ pin is pulled low. (See Datasheet)", 8 GND (power) "Chip Ground.", 9 OV (in) "Overvoltage Input. When the voltage on OV exceeds its trip point the GATE pin is pulled low immediately and the CRWBR timer starts. If OV remains above its trip point (minus 3mV of hysteresis) long enough for CRWBR to reach (See Datasheet)", 10 COMPOUT (oc) "Uncommitted Comparator’s Open Drain Output.", 11 COMP+ (in) "Uncommitted Comparator’s Noninverting Input.", 12 COMP- (in) "Uncommitted Comparator’s Inverting Input.", 13 REF (out) "Reference Voltage Output. The 1.22V +/-1% reference should be bypassed with a 0.1uF compensation capacitor. For VCC = 5V it can source 1mA.", 14 GATE (out) "Gate Drive for the External N-Channel MOSFET. An internal charge pump provides at least 4.5V of gate drive and sources 25uA. The pin requires an external series RC network to ground to compensate the current limit loop and (See Datasheet)", 15 SENSE (in) "Current Sense Input. To use the current limit place a sense resistor in the supply path between VCC and SENSE. When the drop across the resistor exceeds a threshold voltage, the GATE pin is adjusted to maintain a constant (See Datasheet)", 16 VCC (power) "Positive Supply Voltage. An internal undervoltage lockout circuit holds the GATE pin at ground until VCC exceeds 2.73V. If VCC exceeds 16.5V an internal shunt regulator protects the chip from VCC and SENSE pin voltages up to (See Datasheet)"